# Altium footprint library GenericG.PcbLib: 32 footprints (part 1 of 2)
Each footprint in its own frame and in the unit in brackets; x right, y up, seen from the top. Pads: shape width x height; smd on the part's side, far side on the other; paste and mask are expansions set on the pad; w line width, h text height; cw(c..) or ccw(c..) is an arc to the next point about the centre after c.
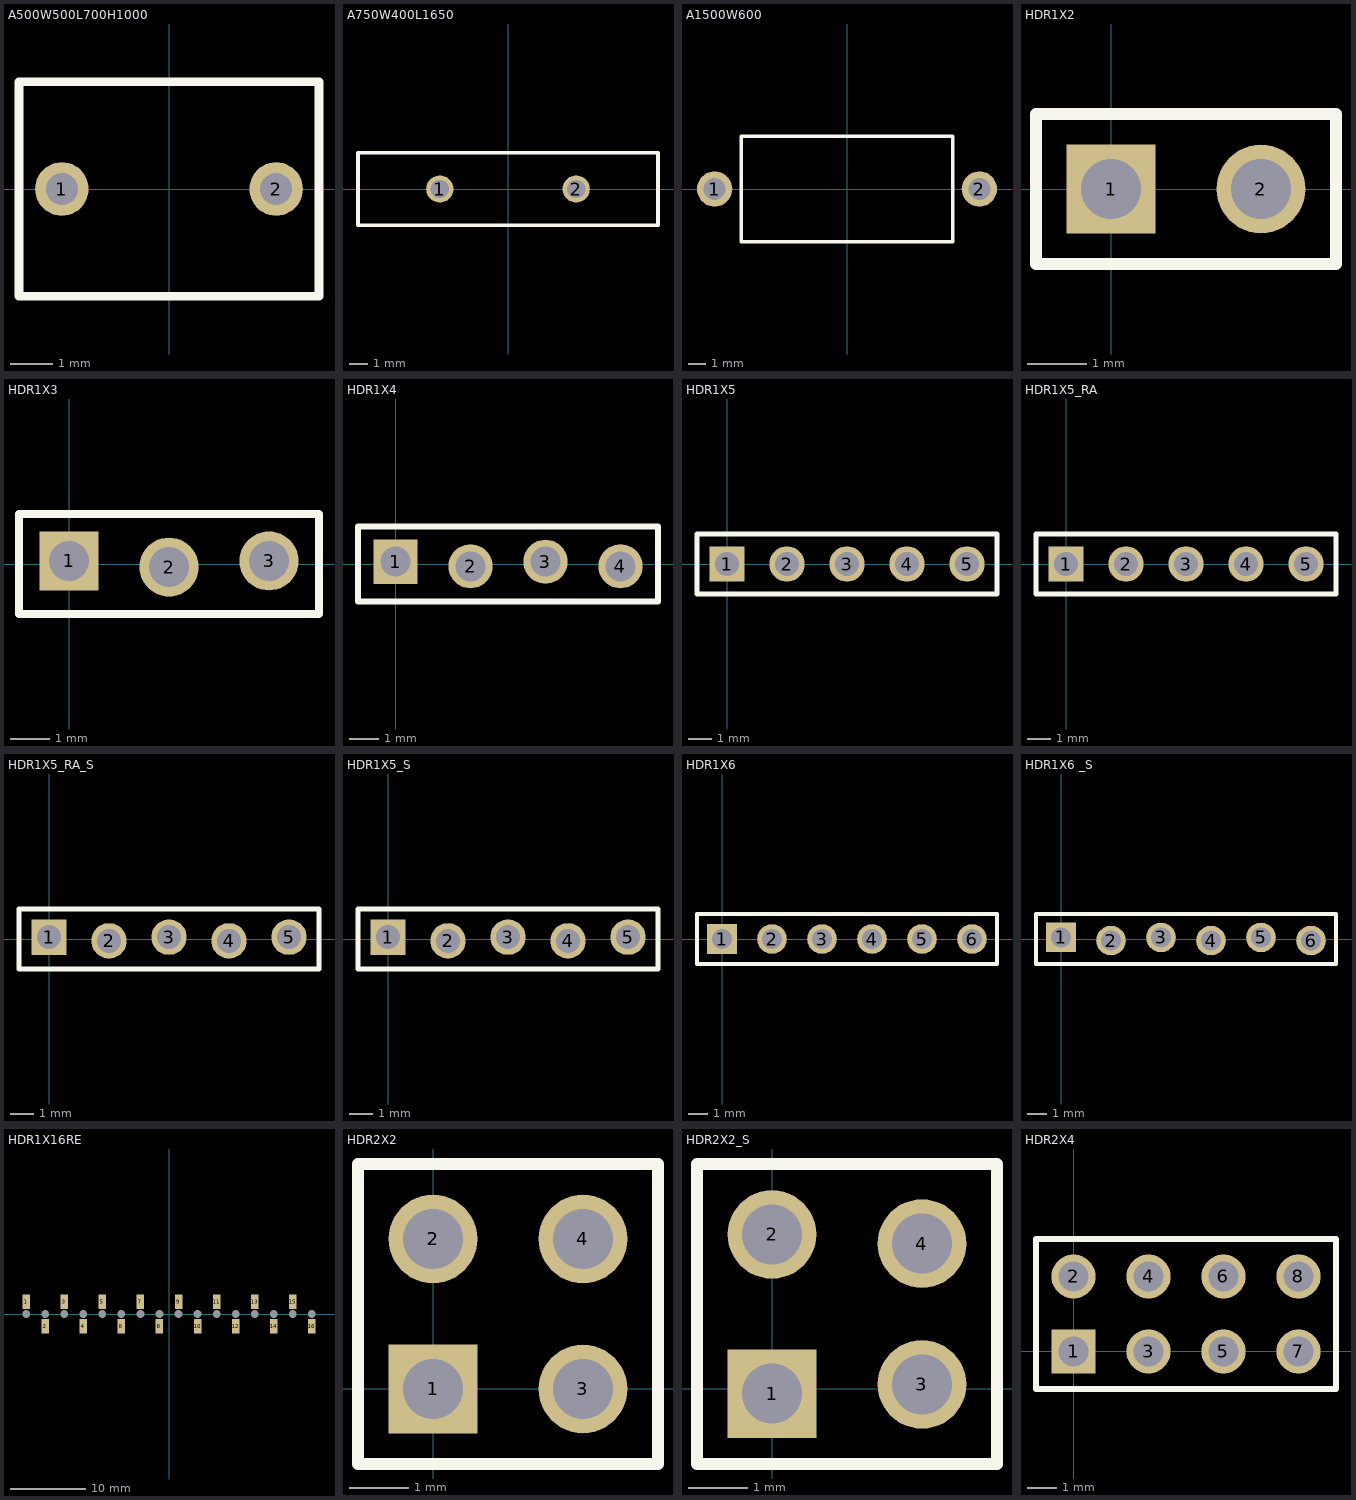
[diagram p0: the footprints below, top view; thin cyan lines are the x and y axes]

## A500W500L700H1000 [mm]
height 10
pads (2):
  round 1.25 hole 0.75: 1(-2.5,0) 2(2.5,0)
Top Overlay:
  lines w0.2: -3.5,-2.5 -3.5,2.5 3.5,2.5 3.5,-2.5 -3.5,-2.5
3D body: height 9.99, standoff 3.01, extent -3.472,-2.5 3.5,2.5

## A750W400L1650 [mm] "Axial, pitch 7.5mm 16.5mmx4mm"
pads (2):
  round 1.5 hole 1: 1(-3.75,0) 2(3.75,0)
Top Overlay:
  lines w0.2: -8.25,-2 8.25,-2 8.25,2 -8.25,2 -8.25,-2
3D body: height 19.98, standoff 3.52, extent -8.185,-2 8.25,2

## A1500W600 [mm] "Axial, 15mm x 6mm"
pads (2):
  round 2 hole 1.25: 1(-7.5,0) 2(7.5,0)
Top Overlay:
  lines w0.2: -6,-3 -6,3 6,3 6,-3 -6,-3
3D body: height 6.99, standoff 1.01, extent -6,-3 6,2.976

## HDR1X2 [mm] "Connector; Header; 2 Position"
pads (2):
  rect 1.5x1.5 hole 1.016: 1(0,0)
  round 1.5 hole 1.016: 2(2.54,0)
Top Overlay:
  lines w0.2: -1.27,-1.27 -1.27,1.27 3.81,1.27 3.81,-1.27 -1.27,-1.27
3D body: height 8.38, standoff -2.54, extent -1.27,-1.34 3.81,1.2

## HDR1X3 [mm] "Connector; Header; 3 Position"
pads (3):
  rect 1.5x1.5 hole 1.016: 1(0,0.077)
  round 1.5 hole 1.016: 2(2.54,-0.077) 3(5.08,0.077)
Top Overlay:
  lines w0.2: -1.27,-1.27 -1.27,1.27 6.35,1.27 6.35,-1.27 -1.27,-1.27
3D body: height 8.38, standoff -2.54, extent -1.27,-1.27 6.35,1.27

## HDR1X4 [mm]
pads (4):
  rect 1.5x1.5 hole 1.016: 1(0,0.077)
  round 1.5 hole 1.016: 2(2.54,-0.077) 3(5.08,0.077) 4(7.62,-0.077)
Top Overlay:
  lines w0.2: -1.27,-1.27 -1.27,1.27 8.89,1.27 8.89,-1.27 -1.27,-1.27

## HDR1X5 [mm]
pads (5):
  rect 1.5x1.5 hole 1.016: 1(0,0)
  round 1.5 hole 1.016: 2(2.54,0) 3(5.08,0) 4(7.62,0) 5(10.16,0)
Top Overlay:
  lines w0.2: -1.27,-1.27 11.43,-1.27 11.43,1.27 -1.27,1.27 -1.27,-1.27
3D body: height 8.38, standoff -2.54, extent -1.27,-1.27 11.43,1.27

## HDR1X5_RA [mm]
pads (5):
  rect 1.5x1.5 hole 1.016: 1(0,0)
  round 1.5 hole 1.016: 2(2.54,0) 3(5.08,0) 4(7.62,0) 5(10.16,0)
Top Overlay:
  lines w0.2: -1.27,-1.27 -1.27,1.27 11.43,1.27 11.43,-1.27 -1.27,-1.27
3D body: height 2.54, standoff -3.53, extent -1.27,-8.3 11.43,0.32

## HDR1X5_RA_S [mm]
pads (5):
  rect 1.5x1.5 hole 1.016: 1(0,0.077)
  round 1.5 hole 1.016: 2(2.54,-0.077) 3(5.08,0.077) 4(7.62,-0.077) 5(10.16,0.077)
Top Overlay:
  lines w0.2: -1.27,-1.27 -1.27,1.27 11.43,1.27 11.43,-1.27 -1.27,-1.27
3D body: height 2.54, standoff -3.53, extent -1.27,-8.3 11.43,0.32

## HDR1X5_S [mm]
pads (5):
  rect 1.5x1.5 hole 1.016: 1(0,0.077)
  round 1.5 hole 1.016: 2(2.54,-0.077) 3(5.08,0.077) 4(7.62,-0.077) 5(10.16,0.077)
Top Overlay:
  lines w0.2: -1.27,-1.27 -1.27,1.27 11.43,1.27 11.43,-1.27 -1.27,-1.27
3D body: height 8.38, standoff -2.54, extent -1.27,-1.27 11.43,1.27

## HDR1X6 [mm] "Connector; Header; 6 Position"
pads (6):
  rect 1.5x1.5 hole 1.016: 1(0,0)
  round 1.5 hole 1.016: 2(2.54,0) 3(5.08,0) 4(7.62,0) 5(10.16,0) 6(12.7,0)
Top Overlay:
  lines w0.2: -1.27,-1.27 13.97,-1.27 13.97,1.27 -1.27,1.27 -1.27,-1.27
3D body: height 8.38, standoff -2.54, extent -1.27,-1.27 13.97,1.27

## HDR1X6 _S [mm] "Connector; Header; 6 Position"
pads (6):
  rect 1.5x1.5 hole 1.016: 1(0,0.077)
  round 1.5 hole 1.016: 2(2.54,-0.077) 3(5.08,0.077) 4(7.62,-0.077) 5(10.16,0.077) 6(12.7,-0.077)
Top Overlay:
  lines w0.2: -1.27,-1.27 13.97,-1.27 13.97,1.27 -1.27,1.27 -1.27,-1.27
3D body: height 8.38, standoff -2.54, extent -1.27,-1.27 13.97,1.27

## HDR1X16RE [mm]
pads (32):
  round 0 hole 1.02 unplated mask+0.051: 1(-19.05,0) 2(-16.51,0) 3(-13.97,0) 4(-11.43,0) 5(-8.89,0) 6(-6.35,0) 7(-3.81,0) 8(-1.27,0) 9(1.27,0) 10(3.81,0) 11(6.35,0) 12(8.89,0) 13(11.43,0) 14(13.97,0) 15(16.51,0) 16(19.05,0)
  rect 1x1.9 smd mask+0.051: 1(-19.05,1.65) 2(-16.51,-1.65) 3(-13.97,1.65) 4(-11.43,-1.65) 5(-8.89,1.65) 6(-6.35,-1.65) 7(-3.81,1.65) 8(-1.27,-1.65) 9(1.27,1.65) 10(3.81,-1.65) 11(6.35,1.65) 12(8.89,-1.65) 13(11.43,1.65) 14(13.97,-1.65) 15(16.51,1.65) 16(19.05,-1.65)
3D body: height 7.5, standoff 0, extent -20.32,-1.25 20.32,1.25

## HDR2X2 [mm] "Connector; Header; 2x2 Position"
pads (4):
  rect 1.5x1.5 hole 1.016: 1(0,0)
  round 1.5 hole 1.016: 2(0,2.54) 3(2.54,0) 4(2.54,2.54)
Top Overlay:
  lines w0.2: -1.27,-1.27 3.81,-1.27 3.81,3.81 -1.27,3.81 -1.27,-1.27
3D body: height 8.38, standoff -2.54, extent -1.27,-1.27 3.81,3.81

## HDR2X2_S [mm] "Connector; Header; 2x2 Position"
pads (4):
  rect 1.5x1.5 hole 1.016: 1(0,-0.077)
  round 1.5 hole 1.016: 2(0,2.617) 3(2.54,0.077) 4(2.54,2.463)
Top Overlay:
  lines w0.2: -1.27,-1.27 -1.27,3.81 3.81,3.81 3.81,-1.27 -1.27,-1.27
3D body: height 8.38, standoff -2.54, extent -1.27,-1.27 3.81,3.81

## HDR2X4 [mm] "Connector; Header; 4x2 Position"
pads (8):
  rect 1.5x1.5 hole 1.016: 1(0,0)
  round 1.5 hole 1.016: 2(0,2.54) 3(2.54,0) 4(2.54,2.54) 5(5.08,0) 6(5.08,2.54) 7(7.62,0) 8(7.62,2.54)
Top Overlay:
  lines w0.2: -1.27,-1.27 8.89,-1.27 8.89,3.81 -1.27,3.81 -1.27,-1.27
3D body: height 8.38, standoff -2.54, extent -1.27,-1.27 8.89,3.81